# EAGLE library part QTE-040-XX-X-D-A (library con-samtec-qte-qse)
RECEPTACAL
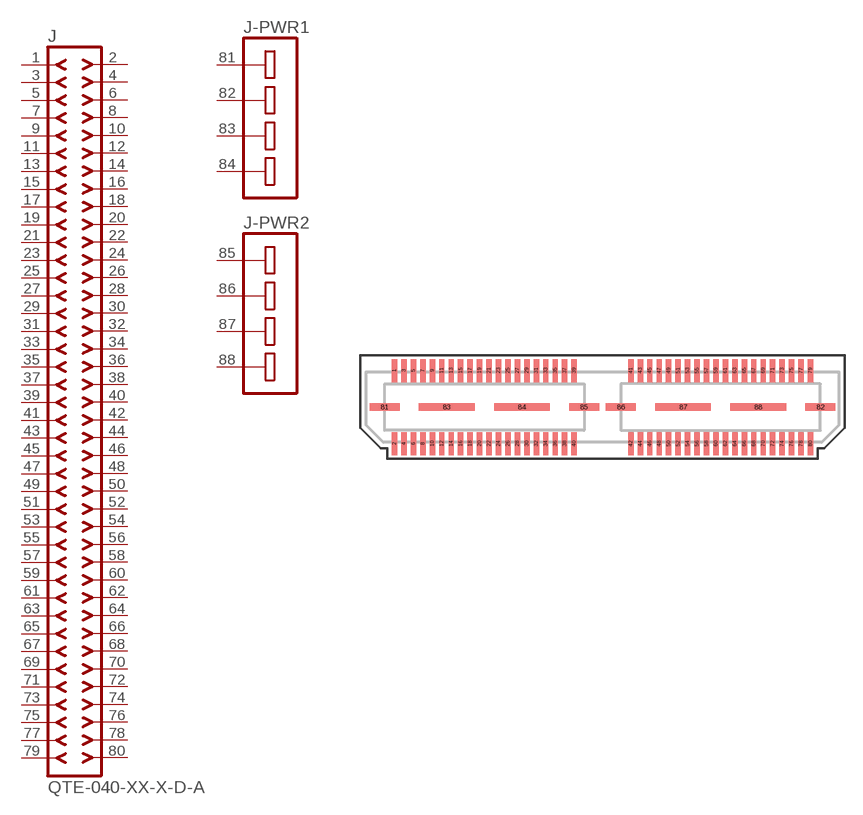
[diagram p0: symbol with the pads of QTE-040-XX-X-D-A; footprint QTE-040-XX-X-D-A]

Designator prefix J; gates G$1=FE40-2 -PWR1=PB-4 -PWR2=PB-4

## QTE-040-XX-X-D-A  [QTE-040-XX-X-D-A]
1  G$1:1  pas
2  G$1:2  pas
3  G$1:3  pas
4  G$1:4  pas
5  G$1:5  pas
6  G$1:6  pas
7  G$1:7  pas
8  G$1:8  pas
9  G$1:9  pas
10  G$1:10  pas
11  G$1:11  pas
12  G$1:12  pas
13  G$1:13  pas
14  G$1:14  pas
15  G$1:15  pas
16  G$1:16  pas
17  G$1:17  pas
18  G$1:18  pas
19  G$1:19  pas
20  G$1:20  pas
21  G$1:21  pas
22  G$1:22  pas
23  G$1:23  pas
24  G$1:24  pas
25  G$1:25  pas
26  G$1:26  pas
27  G$1:27  pas
28  G$1:28  pas
29  G$1:29  pas
30  G$1:30  pas
31  G$1:31  pas
32  G$1:32  pas
33  G$1:33  pas
34  G$1:34  pas
35  G$1:35  pas
36  G$1:36  pas
37  G$1:37  pas
38  G$1:38  pas
39  G$1:39  pas
40  G$1:40  pas
41  G$1:41  pas
42  G$1:42  pas
43  G$1:43  pas
44  G$1:44  pas
45  G$1:45  pas
46  G$1:46  pas
47  G$1:47  pas
48  G$1:48  pas
49  G$1:49  pas
50  G$1:50  pas
51  G$1:51  pas
52  G$1:52  pas
53  G$1:53  pas
54  G$1:54  pas
55  G$1:55  pas
56  G$1:56  pas
57  G$1:57  pas
58  G$1:58  pas
59  G$1:59  pas
60  G$1:60  pas
61  G$1:61  pas
62  G$1:62  pas
63  G$1:63  pas
64  G$1:64  pas
65  G$1:65  pas
66  G$1:66  pas
67  G$1:67  pas
68  G$1:68  pas
69  G$1:69  pas
70  G$1:70  pas
71  G$1:71  pas
72  G$1:72  pas
73  G$1:73  pas
74  G$1:74  pas
75  G$1:75  pas
76  G$1:76  pas
77  G$1:77  pas
78  G$1:78  pas
79  G$1:79  pas
80  G$1:80  pas
81  -PWR1:1  pas
82  -PWR1:2  pas
83  -PWR1:3  pas
84  -PWR1:4  pas
85  -PWR2:1  pas
86  -PWR2:2  pas
87  -PWR2:3  pas
88  -PWR2:4  pas

## Footprint QTE-040-XX-X-D-A (pad centres in mm)
QTE SERIES RECEPTACAL Pitch 0.8mm, Double Row
smd 0.46 x 1.94: 1 -17.6,3.09; 2 -17.6,-3.09; 3 -16.8,3.09; 4 -16.8,-3.09; 5 -16,3.09; 6 -16,-3.09; 7 -15.2,3.09; 8 -15.2,-3.09; 9 -14.4,3.09; 10 -14.4,-3.09; 11 -13.6,3.09; 12 -13.6,-3.09; 13 -12.8,3.09; 14 -12.8,-3.09; 15 -12,3.09; 16 -12,-3.09; 17 -11.2,3.09; 18 -11.2,-3.09; 19 -10.4,3.09; 20 -10.4,-3.09; 21 -9.6,3.09; 22 -9.6,-3.09; 23 -8.8,3.09; 24 -8.8,-3.09; 25 -8,3.09; 26 -8,-3.09; 27 -7.2,3.09; 28 -7.2,-3.09; 29 -6.4,3.09; 30 -6.4,-3.09; 31 -5.6,3.09; 32 -5.6,-3.09; 33 -4.8,3.09; 34 -4.8,-3.09; 35 -4,3.09; 36 -4,-3.09; 37 -3.2,3.09; 38 -3.2,-3.09; 39 -2.4,3.09; 40 -2.4,-3.09; 41 2.4,3.09; 42 2.4,-3.09; 43 3.2,3.09; 44 3.2,-3.09; 45 4,3.09; 46 4,-3.09; 47 4.8,3.09; 48 4.8,-3.09; 49 5.6,3.09; 50 5.6,-3.09; 51 6.4,3.09; 52 6.4,-3.09; 53 7.2,3.09; 54 7.2,-3.09; 55 8,3.09; 56 8,-3.09; 57 8.8,3.09; 58 8.8,-3.09; 59 9.6,3.09; 60 9.6,-3.09; 61 10.4,3.09; 62 10.4,-3.09; 63 11.2,3.09; 64 11.2,-3.09; 65 12,3.09; 66 12,-3.09; 67 12.8,3.09; 68 12.8,-3.09; 69 13.6,3.09; 70 13.6,-3.09; 71 14.4,3.09; 72 14.4,-3.09; 73 15.2,3.09; 74 15.2,-3.09; 75 16,3.09; 76 16,-3.09; 77 16.8,3.09; 78 16.8,-3.09; 79 17.6,3.09; 80 17.6,-3.09
smd 2.54 x 0.64: 81 -18.44,0; 82 18.44,0; 85 -1.56,0; 86 1.56,0
smd 4.7 x 0.64: 83 -13.18,0; 84 -6.83,0; 87 6.83,0; 88 13.18,0